# EAGLE library part 6871XX149022_687135149022 (library Wurth_Connectors_WR-FPC)
WR-FPC 0.50 mm SMT ZIF Horizontal - Bottom Contact KIND PROPERTIES Pitch 0.5 mm MATERIAL PROPERTIES Insulator Material PA6T Contact Material Phosphor Bronze Contact Plating 120 (µ") Tin over 50 (µ") Nickel Contact Type Stamped Solder Tabs Brass <https://www.we-online.com/catalog/media/o32848v209%20Family_Con_FPC_ZIF_050_6871xx149022.jpg> Details see: https://www.we-online.com/catalog/en/FPC_0_5_SMT_ZIF_HORIZONTAL_BUTTOM_CONTACT_6871XX149022/ Updated by Ella Wu 2020-08-26 2020(C) Wurth Elektronik
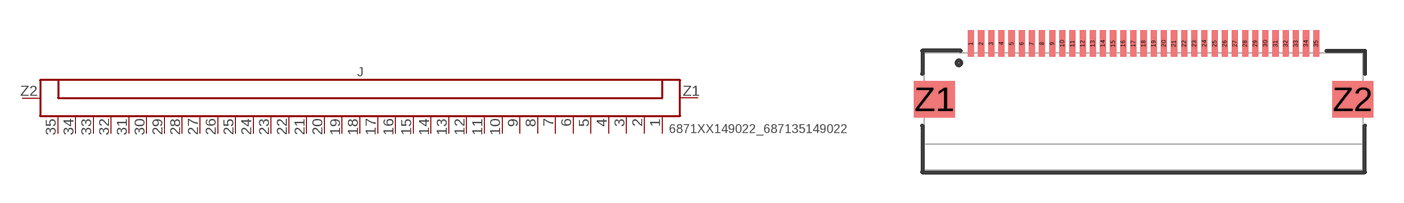
[diagram p104: symbol with the pads of 687135149022; footprint 687135149022]

Designator prefix J

## 6871XX149022_687135149022 (CONTACT-RESISTANCE: 50mOhm; DATASHEET-URL: https://www.we-online.com/catalog/datasheet/687135149022.pdf; IR: 0.5A; L: 21.6mm; PACKAGING: Tape and Reel; PART-NUMBER: 687135149022; PINS: 35; PITCH: 0.5mm; TYPE: Horizontal; VALUE: 687135149022; WORKING-VOLTAGE: 50V(AC))  [687135149022]
1  1  pas
2  2  pas
3  3  pas
4  4  pas
5  5  pas
6  6  pas
7  7  pas
8  8  pas
9  9  pas
10  10  pas
11  11  pas
12  12  pas
13  13  pas
14  14  pas
15  15  pas
16  16  pas
17  17  pas
18  18  pas
19  19  pas
20  20  pas
21  21  pas
22  22  pas
23  23  pas
24  24  pas
25  25  pas
26  26  pas
27  27  pas
28  28  pas
29  29  pas
30  30  pas
31  31  pas
32  32  pas
33  33  pas
34  34  pas
35  35  pas
Z1  Z1  pas
Z2  Z2  pas

## Footprint 687135149022 (pad centres in mm)
WR-FPC 0.50 mm SMT ZIF Horizontal - Bottom Contact ,35Pins
smd 0.3 x 1.3: 1 -8.5,3.35; 2 -8,3.35; 3 -7.5,3.35; 4 -7,3.35; 5 -6.5,3.35; 6 -6,3.35; 7 -5.5,3.35; 8 -5,3.35; 9 -4.5,3.35; 10 -4,3.35; 11 -3.5,3.35; 12 -3,3.35; 13 -2.5,3.35; 14 -2,3.35; 15 -1.5,3.35; 16 -1,3.35; 17 -0.5,3.35; 18 0,3.35; 19 0.5,3.35; 20 1,3.35; 21 1.5,3.35; 22 2,3.35; 23 2.5,3.35; 24 3,3.35; 25 3.5,3.35; 26 4,3.35; 27 4.5,3.35; 28 5,3.35; 29 5.5,3.35; 30 6,3.35; 31 6.5,3.35; 32 7,3.35; 33 7.5,3.35; 34 8,3.35; 35 8.5,3.35
smd 2 x 1.8: Z1 -10.3,0.6; Z2 10.3,0.6